# Altium footprint library Connectors.PcbLib: 76 footprints (part 2 of 5)
Each footprint in its own frame and in the unit in brackets; x right, y up, seen from the top. Pads: shape width x height; smd on the part's side, far side on the other; paste and mask are expansions set on the pad; w line width, h text height; cw(c..) or ccw(c..) is an arc to the next point about the centre after c.
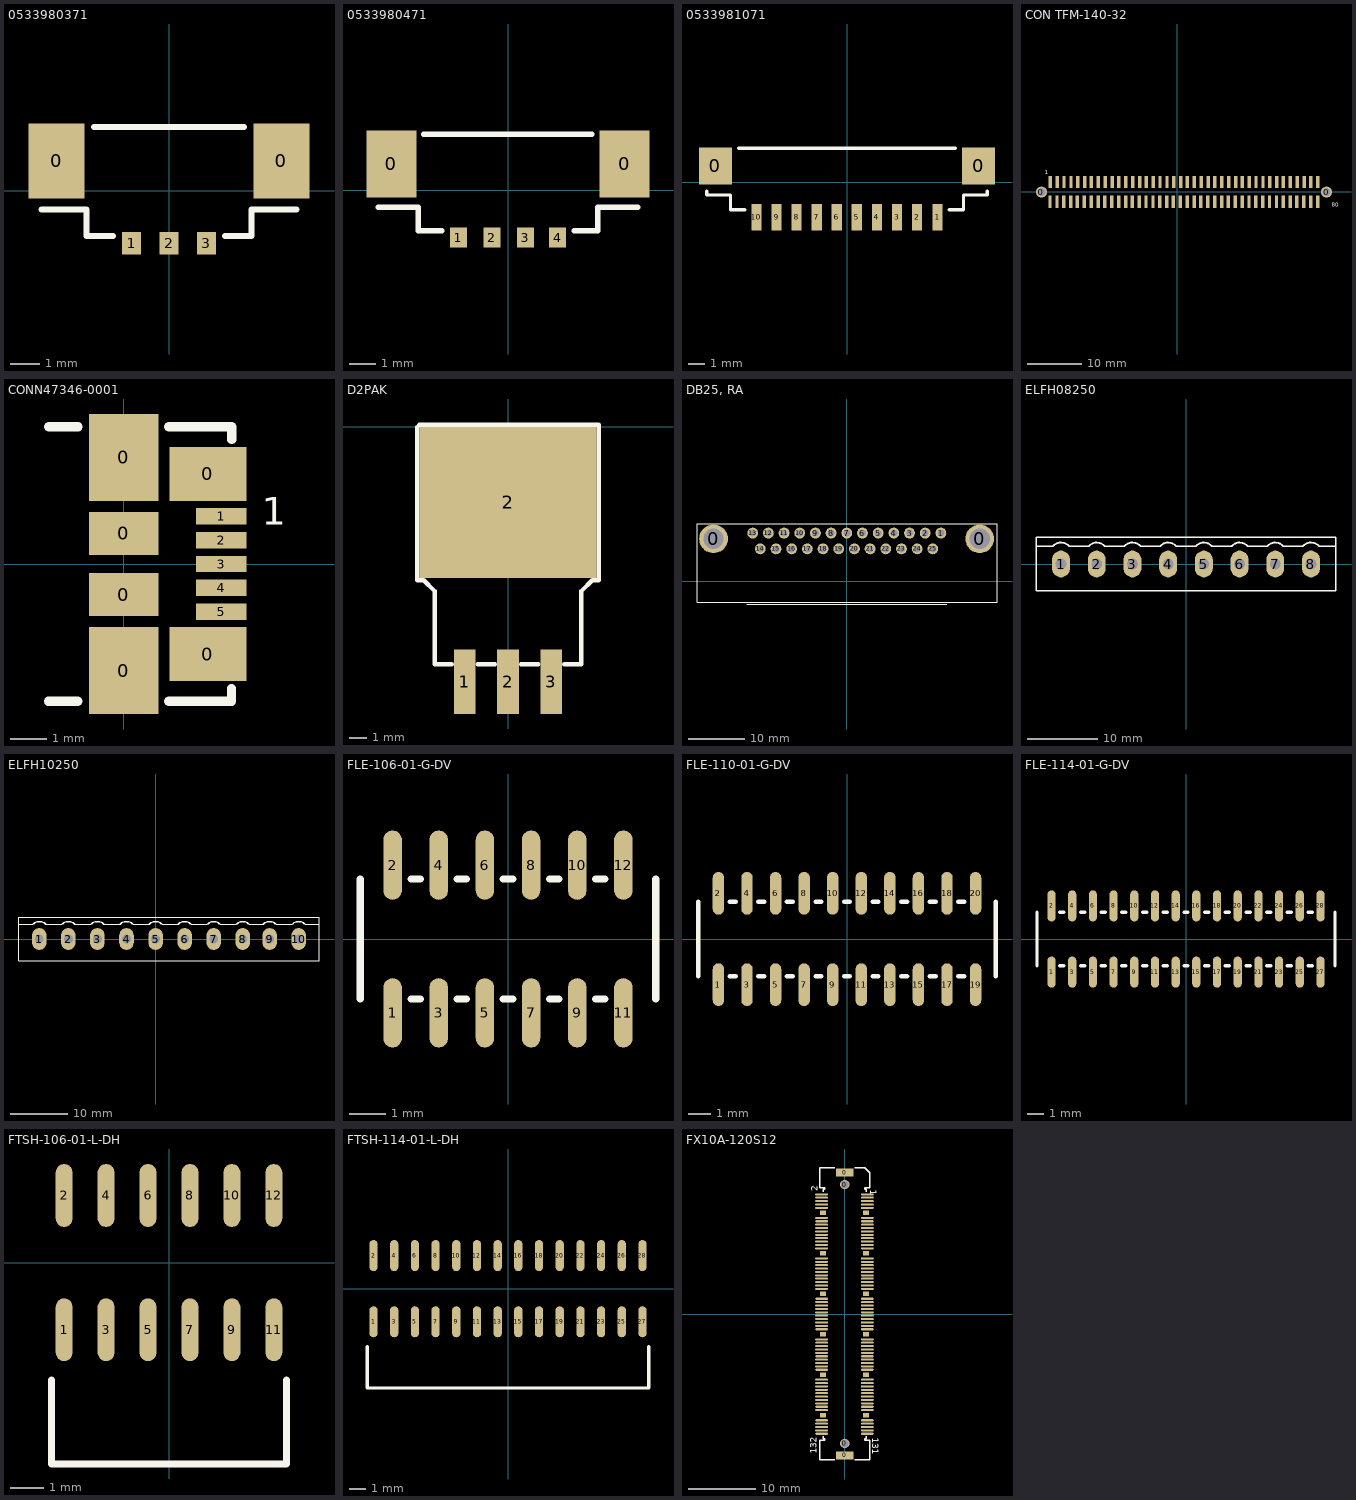
[diagram p1: the footprints below, top view; thin cyan lines are the x and y axes]

## 0533980371 [mil]
pads (5):
  rect 75x100 smd: 0(-150,40) 0(150,40)
  rect 25x30 smd: 1(-50,-70) 2(0,-70) 3(50,-70)
Top Overlay:
  lines w8: -170,-25 -110,-25 -110,-60 -75,-60 ; -100,85 100,85 ; 75,-60 110,-60 110,-25 170,-25
3D body: height 185.55, standoff 0.51, extent -175.19,-82.52 175.2,82.84

## 0533980471 [mil]
pads (6):
  rect 75x100 smd: 0(-174,39) 0(174,39)
  rect 25x30 smd: 1(-74,-71) 2(-24,-71) 3(26,-71) 4(74,-71)
Top Overlay:
  lines w8: -194,-26 -134,-26 -134,-61 -99,-61 ; -126,83 125,83 ; 99,-61 134,-61 134,-26 194,-26
3D body: height 185.55, standoff 0.51, extent -199.8,-83 199.8,82.36

## 0533981071 [mil]
pads (12):
  rect 80x90 smd: 0(-321,40) 0(321,40)
  rect 25x65 smd: 1(221,-85) 2(171,-85) 3(122,-85) 4(73,-85) 5(24,-85) 6(-25,-85) 7(-74,-85) 8(-123,-85) 9(-172,-85) 10(-221,-85)
Top Overlay:
  lines w8: -342,-21 -342,-31 -284,-31 -284,-67 -249,-67 ; -265,83 0,83 265,83 ; 249,-67 284,-67 284,-31 342,-31 342,-21
3D body: height 185.04, standoff 0, extent -347,-82.68 347.88,82.68

## CON TFM-140-32 [mil] "Samtec TFM-120-02 Surface Mount Connector"
pads (82):
  round 80 hole 60: 0(-988,-3) 0(1090,-3)
  rect 25x90 smd: 1(-924,71) 2(-926,-73) 3(-873,71) 4(-875,-73) 5(-824,71) 6(-826,-73) 7(-773,71) 8(-775,-73) 9(-724,71) 10(-726,-73) 11(-673,71) 12(-675,-73) 13(-624,71) 14(-626,-73) 15(-573,71) 16(-575,-73) 17(-524,71) 18(-526,-73) 19(-473,71) 20(-475,-73) 21(-424,71) 22(-426,-73) 23(-373,71) 24(-375,-73) 25(-324,71) 26(-326,-73) 27(-273,71) 28(-275,-73) 29(-224,71) 30(-226,-73) 31(-173,71) 32(-175,-73) 33(-124,71) 34(-126,-73) 35(-73,71) 36(-75,-73) 37(-24,71) 38(-26,-73) 39(27,71) 40(25,-73) 41(76,70) 42(74,-73) 43(127,71) 44(125,-73) 45(176,71) 46(174,-73) 47(227,71) 48(225,-73) 49(276,71) 50(274,-73) 51(327,71) 52(325,-73) 53(376,71) 54(374,-73) 55(427,71) 56(425,-73) 57(476,71) 58(474,-73) 59(527,71) 60(525,-73) 61(576,71) 62(574,-73) 63(627,71) 64(625,-73) 65(676,71) 66(674,-73) 67(727,71) 68(725,-73) 69(776,71) 70(774,-73) 71(827,71) 72(825,-73) 73(876,71) 74(874,-73) 75(927,71) 76(925,-73) 77(976,71) 78(974,-73) 79(1027,71) 80(1025,-73)
Top Overlay:
  text "1" at -963,127 h30
  text "80" at 1129,-109 h30
3D body: height 220, standoff -50, extent -1012,-115.5 1113,109.5

## CONN47346-0001 [mm]
pads (11):
  rect 1.9x2.375 smd: 0(0,-2.913) 0(0,2.913)
  rect 1.9x1.175 smd: 0(0,-0.837) 0(0,0.837)
  rect 2.1x1.475 smd mask+0.05: 0(2.3,-2.464) 0(2.3,2.464)
  rect 1.38x0.45 smd mask+0.05: 1(2.66,1.3) 2(2.66,0.65) 3(2.66,0) 4(2.66,-0.65) 5(2.66,-1.3)
Top Overlay:
  lines w0.254: -2.053,-3.753 -1.253,-3.753 ; -2.05,3.75 -1.25,3.75 ; 1.232,-3.753 2.947,-3.753 2.947,-3.405 ; 1.235,3.75 2.95,3.75 2.95,3.402
  text "1" at 3.767,1.07 h0.76
3D body: height 2.74, standoff -0.2, extent -2.48,-3.99 2.95,3.99

## D2PAK [mil]
pads (4):
  rect 50x150 smd: 1(-100,-590) 2(0,-590) 3(100,-590)
  rect 410x350 smd: 2(0,-175)
Top Overlay:
  lines w10: -130,-550 -170,-550 -170,-380 -195,-355 -210,-355 -210,0 -205,5 210,5 210,-355 195,-355 170,-380 170,-550 130,-550 ; -70,-550 -30,-550 ; 30,-550 70,-550

## DB9, PCB, Rt Angle [mil] "Rt Angle DB9 w/ hole lock"
height 500

## DB25, RA [mil]
pads (27):
  round 200 hole 140: 0(-925,295) 0(925,295)
  round 75 hole 49: 1(655,335) 2(546,335) 3(437,335) 4(328,335) 5(219,335) 6(110,335) 7(1,335) 8(-108,335) 9(-217,335) 10(-326,335) 11(-435,335) 12(-544,335) 13(-653,335) 14(-600,225) 15(-491,225) 16(-382,225) 17(-273,225) 18(-164,225) 19(-55,225) 20(54,225) 21(163,225) 22(272,225) 23(381,225) 24(490,225) 25(599,225)
Top Overlay:
  lines w8: -695,-160 0,-160 695,-160 ; -1040,-145 -1040,400 1045,400 1045,-145 -1040,-145
3D body: height 497.05, standoff -178.15, extent -1044.09,-407.09 1044.09,400

## ELFH08250 [mil] "30-ELFH08250"
height 475
pads (8):
  oval 100x150 hole 60: 1(-700,0) 2(-500,0) 3(-300,0) 4(-100,0) 5(100,0) 6(300,0) 7(500,0) 8(700,0)
Top Overlay:
  lines w8: -839.72,100.28 -744.75,100.28 ; -655,100 -545.03,100 ; -455,100 -345.03,100 ; -255,100 -144.75,100 ; -55,100 54.97,100 ; 145,100 255.25,100 ; 345,100 455.25,100 ; 545,100 654.97,100 ; 745,100 840,100 ; -840,-150 840,-150 840,150 -840,150 -840,-150
  lines w10: -744.75,100.28 cw(c-700,60) -655,100 ; -544.75,100.28 cw(c-500,60) -455,100 ; -344.75,100.28 cw(c-300,60) -255,100 ; -144.75,100.28 cw(c-100,60) -55,100 ; 55.25,100.28 cw(c100,60) 145,100 ; 255.25,100.28 cw(c300,60) 345,100 ; 455.25,100.28 cw(c500,60) 545,100 ; 655.25,100.28 cw(c700,60) 745,100

## ELFH10250 [mil]
height 300
pads (10):
  oval 100x150 hole 60: 1(-800,0) 2(-600,0) 3(-400,0) 4(-200,0) 5(0,0) 6(200,0) 7(400,0) 8(600,0) 9(784.75,0) 10(984.75,0)
Top Overlay:
  lines w8: -939.72,100.28 -844.75,100.28 ; -755,100 -645.03,100 ; -555,100 -445.03,100 ; -355,100 -244.75,100 ; -155,100 -45.03,100 ; 45,100 155.25,100 ; 245,100 355.25,100 ; 445,100 554.97,100 ; 645,100 740,100 ; 829.75,100 939.72,100 ; 1029.75,100 1124.75,100 ; -940,-150 1125,-150 1125,150 -940,150 -940,-150
  lines w10: -844.75,100.28 cw(c-800,60) -755,100 ; -644.75,100.28 cw(c-600,60) -555,100 ; -444.75,100.28 cw(c-400,60) -355,100 ; -244.75,100.28 cw(c-200,60) -155,100 ; -44.75,100.28 cw(c0,60) 45,100 ; 155.25,100.28 cw(c200,60) 245,100 ; 355.25,100.28 cw(c400,60) 445,100 ; 555.25,100.28 cw(c600,60) 645,100 ; 740,100.28 cw(c784.75,60) 829.75,100 ; 940,100.28 cw(c984.75,60) 1029.75,100

## FLE-106-01-G-DV [mil] "Samtec 12 pos connector"
height 180
pads (12):
  oval 20x75 smd: 1(-125,-80) 2(-125,80) 3(-75,-80) 4(-75,80) 5(-25,-80) 6(-25,80) 7(25,-80) 8(25,80) 9(75,-80) 10(75,80) 11(125,-80) 12(125,80)
Top Overlay:
  lines w8: -160,-65 -160,65 ; -105,-65 -95,-65 ; -105,65 -95,65 ; -55,-65 -45,-65 ; -55,65 -45,65 ; -5,-65 5,-65 ; -5,65 5,65 ; 45,-65 55,-65 ; 45,65 55,65 ; 95,-65 105,-65 ; 95,65 105,65 ; 160,-65 160,65

## FLE-110-01-G-DV [mil] "Samtec 20 pos connector"
height 180
pads (20):
  oval 20x75 smd: 1(-225,-80) 2(-225,80) 3(-175,-80) 4(-175,80) 5(-125,-80) 6(-125,80) 7(-75,-80) 8(-75,80) 9(-25,-80) 10(-25,80) 11(25,-80) 12(25,80) 13(75,-80) 14(75,80) 15(125,-80) 16(125,80) 17(175,-80) 18(175,80) 19(225,-80) 20(225,80)
Top Overlay:
  lines w8: -260,-65 -260,65 ; -205,-65 -195,-65 ; -205,65 -195,65 ; -155,-65 -145,-65 ; -155,65 -145,65 ; -105,-65 -95,-65 ; -105,65 -95,65 ; -55,-65 -45,-65 ; -55,65 -45,65 ; -5,-65 5,-65 ; -5,65 5,65 ; 45,-65 55,-65 ; 45,65 55,65 ; 95,-65 105,-65 ; 95,65 105,65 ; 145,-65 155,-65 ; 145,65 155,65 ; 195,-65 205,-65 ; 195,65 205,65 ; 260,-65 260,65

## FLE-114-01-G-DV [mil]
height 180
pads (28):
  oval 20x75 smd: 1(-325,-80) 2(-325,80) 3(-275,-80) 4(-275,80) 5(-225,-80) 6(-225,80) 7(-175,-80) 8(-175,80) 9(-125,-80) 10(-125,80) 11(-75,-80) 12(-75,80) 13(-25,-80) 14(-25,80) 15(25,-80) 16(25,80) 17(75,-80) 18(75,80) 19(125,-80) 20(125,80) 21(175,-80) 22(175,80) 23(225,-80) 24(225,80) 25(275,-80) 26(275,80) 27(325,-80) 28(325,80)
Top Overlay:
  lines w8: -360,-65 -360,65 ; -305,-65 -295,-65 ; -305,65 -295,65 ; -255,-65 -245,-65 ; -255,65 -245,65 ; -205,-65 -195,-65 ; -205,65 -195,65 ; -155,-65 -145,-65 ; -155,65 -145,65 ; -105,-65 -95,-65 ; -105,65 -95,65 ; -55,-65 -45,-65 ; -55,65 -45,65 ; -5,-65 5,-65 ; -5,65 5,65 ; 45,-65 55,-65 ; 45,65 55,65 ; 95,-65 105,-65 ; 95,65 105,65 ; 145,-65 155,-65 ; 145,65 155,65 ; 195,-65 205,-65 ; 195,65 205,65 ; 245,-65 255,-65 ; 245,65 255,65 ; 295,-65 305,-65 ; 295,65 305,65 ; 360,-65 360,65

## FTSH-106-01-L-DH [mil]
height 140
pads (12):
  oval 20x75 smd: 1(-125,-80) 2(-125,80) 3(-75,-80) 4(-75,80) 5(-25,-80) 6(-25,80) 7(25,-80) 8(25,80) 9(75,-80) 10(75,80) 11(125,-80) 12(125,80)
Top Overlay:
  lines w8: -140,-140 -140,-240 140,-240 140,-140

## FTSH-114-01-L-DH [mil]
height 140
pads (28):
  oval 20x75 smd: 1(-325,-80) 2(-325,80) 3(-275,-80) 4(-275,80) 5(-225,-80) 6(-225,80) 7(-175,-80) 8(-175,80) 9(-125,-80) 10(-125,80) 11(-75,-80) 12(-75,80) 13(-25,-80) 14(-25,80) 15(25,-80) 16(25,80) 17(75,-80) 18(75,80) 19(125,-80) 20(125,80) 21(175,-80) 22(175,80) 23(225,-80) 24(225,80) 25(275,-80) 26(275,80) 27(325,-80) 28(325,80)
Top Overlay:
  lines w8: -340,-140 -340,-240 340,-240 340,-140

## FX10A-120S12 [mil]
pads (136):
  rect 100x45 smd: 0(0,-826) 0(0,826)
  round 55 hole 45: 0(0,-756) 0(0,756)
  oval 75x12 smd: 1(132,699) 2(-135,699) 3(132,679.12) 4(-135,679.12) 5(132,659.25) 6(-135,659.25) 7(132,639.38) 8(-135,639.38) 9(132,619.5) 10(-135,619.5) 13(132,561.5) 14(-135,561.5) 15(132,541.72) 16(-135,541.72) 17(132,521.94) 18(-135,521.94) 19(132,502.17) 20(-135,502.17) 21(132,482.39) 22(-135,482.39) 23(132,462.61) 24(-135,462.61) 25(132,442.83) 26(-135,442.83) 27(132,423.06) 28(-135,423.06) 29(132,403.28) 30(-135,403.28) 31(132,383.5) 32(-135,383.5) 35(132,324.5) 36(-135,324.5) 37(132,304.78) 38(-135,304.78) 39(132,285.06) 40(-135,285.06) 41(132,265.33) 42(-135,265.33) 43(132,245.61) 44(-135,245.61) 45(132,225.89) 46(-135,225.89) 47(132,206.17) 48(-135,206.17) 49(132,186.44) 50(-135,186.44) 51(132,166.72) 52(-135,166.72) 53(132,147) 54(-135,147) 57(132,89) 58(-135,89) 59(132,69.22) 60(-135,69.22) 61(132,49.45) 62(-135,49.45) 63(132,29.67) 64(-135,29.67) 65(132,9.89) 66(-135,9.89) 67(132,-9.89) 68(-135,-9.89) 69(132,-29.67) 70(-135,-29.67) 71(132,-49.44) 72(-135,-49.44) 73(132,-69.22) 74(-135,-69.22) 75(132,-89) 76(-135,-89) 79(132,-148) 80(-135,-148) 81(132,-167.72) 82(-135,-167.72) 83(132,-187.44) 84(-135,-187.44) 85(132,-207.17) 86(-135,-207.17) 87(132,-226.89) 88(-135,-226.89) 89(132,-246.61) 90(-135,-246.61) 91(132,-266.33) 92(-135,-266.33) 93(132,-286.06) 94(-135,-286.06) 95(132,-305.78) 96(-135,-305.78) 97(132,-325.5) 98(-135,-325.5) 101(132,-383.5) 102(-135,-383.5) 103(132,-403.28) 104(-135,-403.28) 105(132,-423.05) 106(-135,-423.05) 107(132,-442.83) 108(-135,-442.83) 109(132,-462.61) 110(-135,-462.61) 111(132,-482.39) 112(-135,-482.39) 113(132,-502.17) 114(-135,-502.17) 115(132,-521.94) 116(-135,-521.94) 117(132,-541.72) 118(-135,-541.72) 119(132,-561.5) 120(-135,-561.5) 123(132,-620.5) 124(-135,-620.5) 125(132,-640.22) 126(-135,-640.22) 127(132,-659.94) 128(-135,-659.94) 129(132,-679.67) 130(-135,-679.67) 131(132,-699.39) 132(-135,-699.39)
  rect 35x25 smd: 11(124,590.5) 12(-127,590.5) 33(124,354) 34(-127,354) 55(124,118) 56(-127,118) 77(124,-118.5) 78(-127,-118.5) 99(124,-354.5) 100(-127,-354.5) 121(124,-591) 122(-127,-591)
Top Overlay:
  lines w8: -126,-713 -126,-724 -126,-728 -118,-728 -118,-736 -147,-736 -147,-852 -59,-852 ; -126,715 -126,726 -126,730 -118,730 -118,738 -147,738 -147,854 -59,854 ; 59,-852 147,-852 147,-736 118,-736 118,-728 126,-728 126,-724 126,-713 ; 59,854 118,854 147,825 147,738 118,738 118,730 126,730 126,726 126,715
  text "2" at -159,717 h38
  text "132" at -162,-816 h38
  text "131" at 161,-722 h38
  text "1" at 149,727 h38
3D body: height 126.24, standoff -23.36, extent -143.7,-848 143.7,848.85